# Altium schematic symbol library MCU_Parallax.SchLib: 3 symbols
Pins are listed as number, name and electrical type; pins without a type are passive.

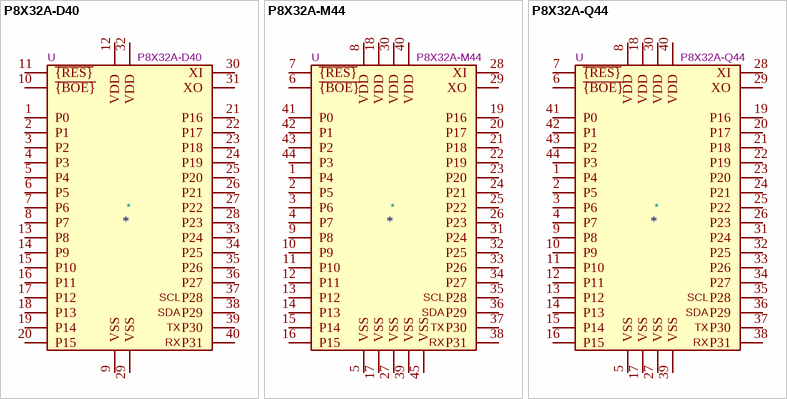
[diagram p0: symbols P8X32A-D40 to P8X32A-Q44]

## P8X32A-D40
designator *  value P8X32A-D40  Reference: U
ki_keywords: microcontroller multicore Parallax Propeller DIP; ki_description: Parallax Propeller 8 core, 32 bit, 80 MHz microcontroller, 3.3VDC, 40-pin DIP; ki_fp_filters: DIP*40*W15.24mm*; Footprint: Package_DIP:DIP-40_W15.24mm; Datasheet: https://www.parallax.com/sites/default/files/downloads/P8X32A-Propeller-Datasheet-v1.4.0_0.pdf
pins: 1 P0, 2 P1, 3 P2, 4 P3, 5 P4, 6 P5, 7 P6, 8 P7, 9 VSS, 10 ~{{BOE}}, 11 ~{{RES}}, 12 VDD, 13 P8, 14 P9, 15 P10, 16 P11, 17 P12, 18 P13, 19 P14, 20 P15, 21 P16, 22 P17, 23 P18, 24 P19, 25 P20, 26 P21, 27 P22, 28 P23, 29 VSS, 30 XI, 31 XO, 32 VDD, 33 P24, 34 P25, 35 P26, 36 P27, 37 P28, 38 P29, 39 P30, 40 P31
text: SCL; SDA; TX; RX

## P8X32A-M44
designator *  value P8X32A-M44  Reference: U
ki_keywords: microcontroller multicore Parallax Propeller QFN; ki_description: Parallax Propeller 8 core, 32 bit, 80 MHz microcontroller, 3.3VDC, 44-pin QFN; ki_fp_filters: QFN*44*1EP*9x9mm*P0.65mm*; Footprint: Package_DFN_QFN:QFN-44-1EP_9x9mm_P0.65mm_EP7.5x7.5mm; Datasheet: https://www.parallax.com/sites/default/files/downloads/P8X32A-Propeller-Datasheet-v1.4.0_0.pdf
pins: 1 P4, 2 P5, 3 P6, 4 P7, 5 VSS, 6 ~{{BOE}}, 7 ~{{RES}}, 8 VDD, 9 P8, 10 P9, 11 P10, 12 P11, 13 P12, 14 P13, 15 P14, 16 P15, 17 VSS, 18 VDD, 19 P16, 20 P17, 21 P18, 22 P19, 23 P20, 24 P21, 25 P22, 26 P23, 27 VSS, 28 XI, 29 XO, 30 VDD, 31 P24, 32 P25, 33 P26, 34 P27, 35 P28, 36 P29, 37 P30, 38 P31, 39 VSS, 40 VDD, 41 P0, 42 P1, 43 P2, 44 P3, 45 VSS
text: SCL; SDA; TX; RX

## P8X32A-Q44
designator *  value P8X32A-Q44  Reference: U
ki_keywords: microcontroller multicore Parallax Propeller LQFP; ki_description: Parallax Propeller 8 core, 32 bit, 80 MHz microcontroller, 3.3VDC, 44-pin LQFP; ki_fp_filters: LQFP*44*10x10mm*P0.8mm*; Footprint: Package_QFP:LQFP-44_10x10mm_P0.8mm; Datasheet: https://www.parallax.com/sites/default/files/downloads/P8X32A-Propeller-Datasheet-v1.4.0_0.pdf
pins: 1 P4, 2 P5, 3 P6, 4 P7, 5 VSS, 6 ~{{BOE}}, 7 ~{{RES}}, 8 VDD, 9 P8, 10 P9, 11 P10, 12 P11, 13 P12, 14 P13, 15 P14, 16 P15, 17 VSS, 18 VDD, 19 P16, 20 P17, 21 P18, 22 P19, 23 P20, 24 P21, 25 P22, 26 P23, 27 VSS, 28 XI, 29 XO, 30 VDD, 31 P24, 32 P25, 33 P26, 34 P27, 35 P28, 36 P29, 37 P30, 38 P31, 39 VSS, 40 VDD, 41 P0, 42 P1, 43 P2, 44 P3
text: SCL; SDA; TX; RX